# Altium schematic symbol library TSC2046_TSOP.SchLib: 1 symbol
Pins are listed as number, name and electrical type; pins without a type are passive.

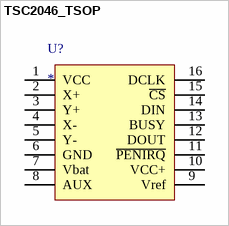
[diagram p0: symbol TSC2046_TSOP]

## TSC2046_TSOP
designator U?
pins: 1 VCC (power), 2 X+, 3 Y+, 4 X-, 5 Y-, 6 GND (power), 7 Vbat (power), 8 AUX, 9 Vref, 10 VCC+ (power), 11 ~{PENIRQ}, 12 DOUT, 13 BUSY, 14 DIN, 15 ~{CS}, 16 DCLK